# Altium schematic symbol library Passive.SchLib: 49 symbols
Pins are listed as number, name and electrical type; pins without a type are passive.

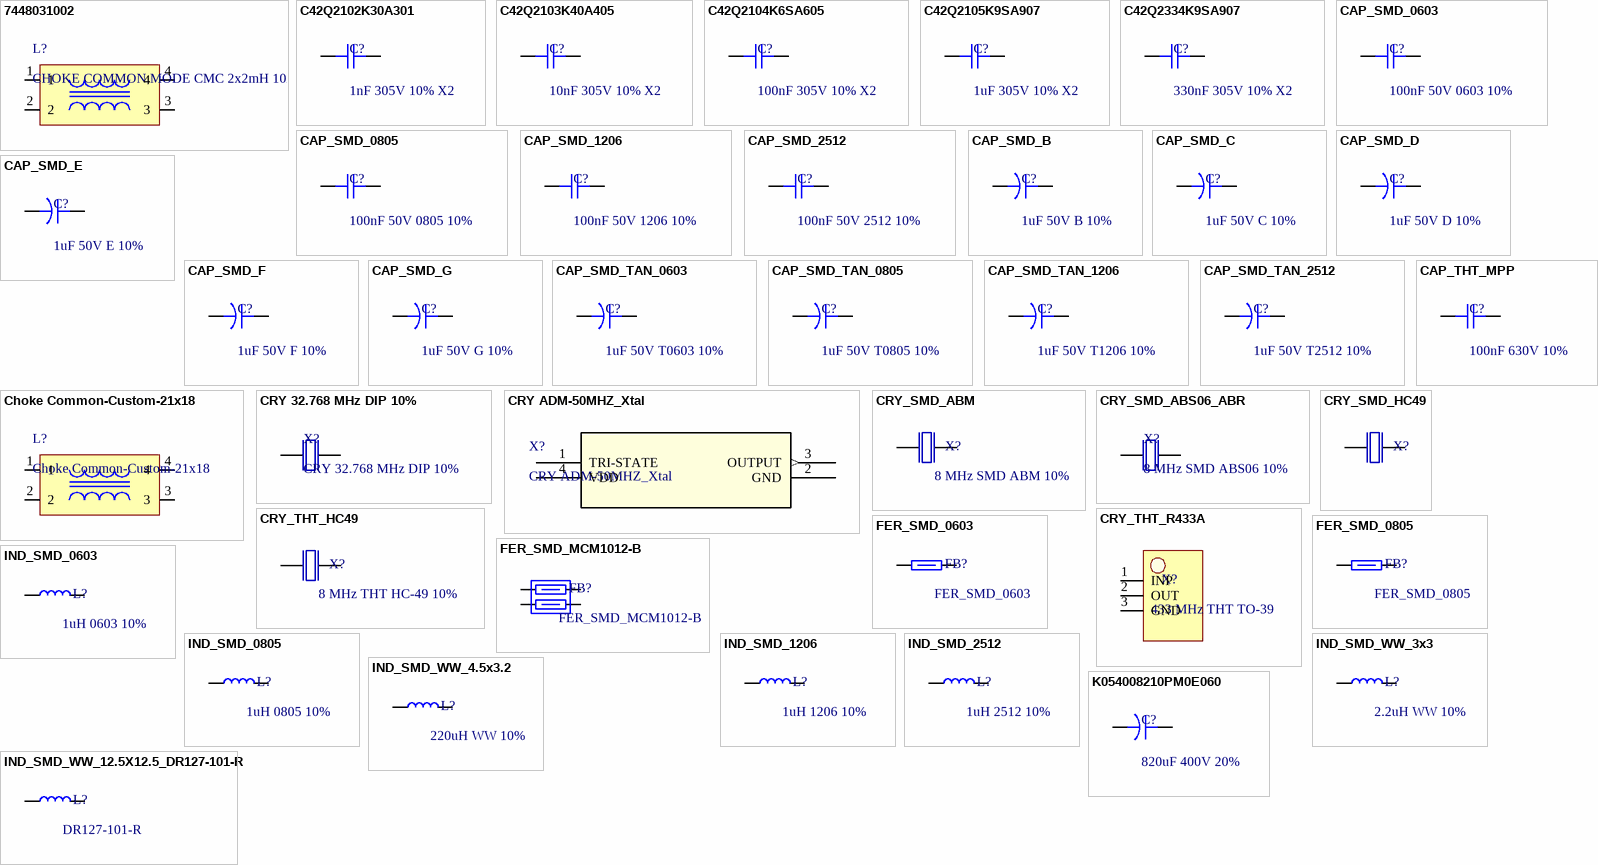
[diagram p0: symbols 7448031002 to K054008210PM0E060]

## 7448031002
designator L?, comment CHOKE COMMON MODE CMC 2x2mH 10A
Link: https://ozdisan.com/pasif-komponentler/induktorler/ortak-mod-bobinler/7448031002/696108
footprint 7448031002
pins: 1, 2, 3, 4

## C42Q2102K30A301
designator C?, comment 1nF 305V 10% X2
Link: https://ozdisan.com/passive-components/capacitors/film-capacitors/C42Q2102K30A301/514463
footprint C42Q2102K30A301
pins: 1, 2

## C42Q2103K40A405
designator C?, comment 10nF 305V 10% X2
Link: https://ozdisan.com/passive-components/capacitors/film-capacitors/C42Q2103K40A405/350791
footprint C42Q2103K40A405
pins: 1, 2

## C42Q2104K6SA605
designator C?, comment 100nF 305V 10% X2
Link: https://ozdisan.com/passive-components/capacitors/film-capacitors/C42Q2104K6SA605/350799
footprint C42Q2104K6SA605
footprint C42Q2104K6SA605-W
pins: 1, 2

## C42Q2105K9SA907
designator C?, comment 1uF 305V 10% X2
Link: https://ozdisan.com/passive-components/capacitors/film-capacitors/C42Q2105K9SA907/350809
footprint C42Q2105K9SA907
pins: 1, 2

## C42Q2334K9SA907
designator C?, comment 330nF 305V 10% X2
Link: https://ozdisan.com/passive-components/capacitors/film-capacitors/C42Q2334K9SA907/350803
footprint C42Q2334K9SA907
pins: 1, 2

## CAP_SMD_0603
designator C?, comment 100nF 50V 0603 10%
footprint CAPC-0603-M (Chip Capacitor, 2-Leads, Body 1.60x0.80mm, IPC Low Density)
footprint CAPC-0603-N (Chip Capacitor, 2-Leads, Body 1.60x0.80mm, IPC Medium Density)
footprint CAPC-0603-L (Chip Capacitor, 2-Leads, Body 1.60x0.80mm, IPC High Density)
pins: 1, 2

## CAP_SMD_0805
designator C?, comment 100nF 50V 0805 10%
footprint CAPC-0805-M (Chip Capacitor, 2-Leads, Body 2.00x1.30mm, IPC Low Density)
footprint CAPC-0805-N (Chip Capacitor, 2-Leads, Body 2.00x1.30mm, IPC Medium Density)
footprint CAPC-0805-L (Chip Capacitor, 2-Leads, Body 2.00x1.30mm, IPC High Density)
pins: 1, 2

## CAP_SMD_1206
designator C?, comment 100nF 50V 1206 10%
footprint CAPC-1206-M (Chip Capacitor, 2-Leads, Body 3.05x1.60mm, IPC Low Density)
footprint CAPC-1206-N (Chip Capacitor, 2-Leads, Body 3.05x1.60mm, IPC Medium Density)
footprint CAPC-1206-L (Chip Capacitor, 2-Leads, Body 3.05x1.60mm, IPC High Density)
pins: 1, 2

## CAP_SMD_2512
designator C?, comment 100nF 50V 2512 10%
footprint CAPC-2512-M (Chip Capacitor, 2-Leads, Body 6.35x3.15mm, IPC Low Density)
footprint CAPC-2512-N (Chip Capacitor, 2-Leads, Body 6.35x3.15mm, IPC Medium Density)
footprint CAPC-2512-L (Chip Capacitor, 2-Leads, Body 6.35x3.15mm, IPC High Density)
pins: 1, 2

## CAP_SMD_B
designator C?, comment 1uF 50V B 10%
footprint CAPP-B-M (Aluminum Electrolytic Capacitor, Body 4.30x4.30x5.50mm, IPC Low Density)
footprint CAPP-B-N (Aluminum Electrolytic Capacitor, Body 4.30x4.30x5.50mm, IPC Medium Density)
footprint CAPP-B-L (Aluminum Electrolytic Capacitor, Body 4.30x4.30x5.50mm, IPC High Density)
pins: 1, 2

## CAP_SMD_C
designator C?, comment 1uF 50V C 10%
footprint CAPP-C-M (Aluminum Electrolytic Capacitor, Body 5.30x5.30x5.50mm, IPC Low Density)
footprint CAPP-C-N (Aluminum Electrolytic Capacitor, Body 5.30x5.30x5.50mm, IPC Medium Density)
footprint CAPP-C-L (Aluminum Electrolytic Capacitor, Body 5.30x5.30x5.50mm, IPC High Density)
pins: 1, 2

## CAP_SMD_D
designator C?, comment 1uF 50V D 10%
footprint CAPP-D-M (Aluminum Electrolytic Capacitor, Body 6.60x6.60x5.50mm, IPC Low Density)
footprint CAPP-D-N (Aluminum Electrolytic Capacitor, Body 6.60x6.60x5.50mm, IPC Medium Density)
footprint CAPP-D-L (Aluminum Electrolytic Capacitor, Body 6.60x6.60x5.50mm, IPC High Density)
pins: 1, 2

## CAP_SMD_E
designator C?, comment 1uF 50V E 10%
footprint CAPP-E-M (Aluminum Electrolytic Capacitor, Body 8.30x8.30x9.50mm, IPC Low Density)
footprint CAPP-E-N (Aluminum Electrolytic Capacitor, Body 8.30x8.30x9.50mm, IPC Medium Density)
footprint CAPP-E-L (Aluminum Electrolytic Capacitor, Body 8.30x8.30x9.50mm, IPC High Density)
pins: 1, 2

## CAP_SMD_F
designator C?, comment 1uF 50V F 10%
footprint CAPP-F-M (Aluminum Electrolytic Capacitor, Body 8.30x8.30x10.00mm, IPC Low Density)
footprint CAPP-F-N (Aluminum Electrolytic Capacitor, Body 8.30x8.30x10.00mm, IPC Medium Density)
footprint CAPP-F-L (Aluminum Electrolytic Capacitor, Body 8.30x8.30x10.00mm, IPC High Density)
pins: 1, 2

## CAP_SMD_G
designator C?, comment 1uF 50V G 10%
footprint CAPP-G-M (Aluminum Electrolytic Capacitor, Body 10.30x10.30x10.50mm, IPC Low Density)
footprint CAPP-G-N (Aluminum Electrolytic Capacitor, Body 10.30x10.30x10.50mm, IPC Medium Density)
footprint CAPP-G-L (Aluminum Electrolytic Capacitor, Body 10.30x10.30x10.50mm, IPC High Density)
pins: 1, 2

## CAP_SMD_TAN_0603
designator C?, comment 1uF 50V T0603 10%
pins: 1, 2

## CAP_SMD_TAN_0805
designator C?, comment 1uF 50V T0805 10%
pins: 1, 2

## CAP_SMD_TAN_1206
designator C?, comment 1uF 50V T1206 10%
footprint CAPCT-1206-M (Chip Capacitor, 2-Leads, Body 3.05x1.60mm, IPC Low Density)
footprint CAPCT-1206-N (Chip Capacitor, 2-Leads, Body 3.05x1.60mm, IPC Medium Density)
footprint CAPCT-1206-L (Chip Capacitor, 2-Leads, Body 3.05x1.60mm, IPC High Density)
pins: 1, 2

## CAP_SMD_TAN_2512
designator C?, comment 1uF 50V T2512 10%
pins: 1, 2

## CAP_THT_MPP
designator C?, comment 100nF 630V 10%
footprint CAP-THT-MPP-10MM
pins: 1, 2

## Choke Common-Custom-21x18
designator L?
Link: https://ozdisan.com/pasif-komponentler/induktorler/ortak-mod-bobinler/7448031002/696108
footprint Choke Common-Custom-21x18
pins: 1, 2, 3, 4

## CRY 32.768 MHz DIP 10%
designator X?
footprint MTF32
pins: 1 A, 2 B

## CRY ADM-50MHZ_Xtal
designator X?
footprint ADM-50MHZ_Xtal
pins: 1 TRI-STATE, 2 GND, 3 OUTPUT (out), 4 VDD (power)

## CRY_SMD_ABM
designator X?, comment 8 MHz SMD ABM 10%
footprint ABM3-8.000MHZ-D2Y-T
pins: 1 A, 2 B

## CRY_SMD_ABS06_ABR
designator X?, comment 8 MHz SMD ABS06 10%
footprint XTAL_ABS06_ABR
pins: 1 A, 2 B

## CRY_SMD_HC49
designator X?
footprint HC49 US
pins: 1 A, 2 B

## CRY_THT_HC49
designator X?, comment 8 MHz THT HC-49 10%
footprint HC49U
pins: 1 A, 2 B

## CRY_THT_R433A
designator X?, comment 433 MHz THT TO-39
footprint TO-39
pins: 1 INP, 2 OUT, 3 GND

## FER_SMD_0603
designator FB?
LCB1608-152Y-N-FERRITE BEAD 0603 1K5/100MHZ SMD
footprint INDC-0603-M (Chip Inductor, 2-Leads, Body 1.60x0.80mm, IPC Low Density)
footprint INDC-0603-N (Chip Inductor, 2-Leads, Body 1.60x0.80mm, IPC Medium Density)
footprint INDC-0603-L (Chip Inductor, 2-Leads, Body 1.60x0.80mm, IPC High Density)
pins: 1 A, 2 B

## FER_SMD_0805
designator FB?
BLM21PG221SN1D-FERRITE BEAD 0805 220R 2A SMD MURATA
footprint INDC-0805-M (Chip Inductor, 2-Leads, Body 2.00x1.30mm, IPC Low Density)
footprint INDC-0805-N (Chip Inductor, 2-Leads, Body 2.00x1.30mm, IPC Medium Density)
footprint INDC-0805-L (Chip Inductor, 2-Leads, Body 2.00x1.30mm, IPC High Density)
pins: 1 A, 2 B

## FER_SMD_MCM1012-B
designator FB?
MCM1012-B
footprint 0504 (1210 Metric), 4 PC Pad
pins: 1 A, 2 B, 3 D, 4 C

## IND_SMD_0603
designator L?, comment 1uH 0603 10%
footprint INDC-0603-M (Chip Inductor, 2-Leads, Body 1.60x0.80mm, IPC Low Density)
footprint INDC-0603-N (Chip Inductor, 2-Leads, Body 1.60x0.80mm, IPC Medium Density)
footprint INDC-0603-L (Chip Inductor, 2-Leads, Body 1.60x0.80mm, IPC High Density)
pins: 1 A, 2 B

## IND_SMD_0805
designator L?, comment 1uH 0805 10%
footprint INDC-0805-M (Chip Inductor, 2-Leads, Body 2.00x1.30mm, IPC Low Density)
footprint INDC-0805-N (Chip Inductor, 2-Leads, Body 2.00x1.30mm, IPC Medium Density)
footprint INDC-0805-L (Chip Inductor, 2-Leads, Body 2.00x1.30mm, IPC High Density)
pins: 1 A, 2 B

## IND_SMD_1206
designator L?, comment 1uH 1206 10%
footprint INDC-1206-M (Chip Inductor, 2-Leads, Body 3.05x1.60mm, IPC Low Density)
footprint INDC-1206-N (Chip Inductor, 2-Leads, Body 3.05x1.60mm, IPC Medium Density)
footprint INDC-1206-L (Chip Inductor, 2-Leads, Body 3.05x1.60mm, IPC High Density)
pins: 1 A, 2 B

## IND_SMD_2512
designator L?, comment 1uH 2512 10%
footprint INDC-2512-M (Chip Inductor, 2-Leads, Body 6.35x3.15mm, IPC Low Density)
footprint INDC-2512-N (Chip Inductor, 2-Leads, Body 6.35x3.15mm, IPC Medium Density)
footprint INDC-2512-L (Chip Inductor, 2-Leads, Body 6.35x3.15mm, IPC High Density)
pins: 1 A, 2 B

## IND_SMD_WW_3x3
designator L?, comment 2.2uH WW 10%
Link: https://ozdisan.com/passive-components/inductors/fixed-inductors/FPI0302-2R2M/533324
footprint INDC-WW-3X3-M (Precision Wire Wound Inductor, 2-Leads, Body 3.30x3.00mm, IPC Low Density)
pins: 1 A, 2 B

## IND_SMD_WW_4.5x3.2
designator L?, comment 220uH WW 10%
footprint INDC-WW-4.5x3.2-M (Precision Wire Wound Inductor, 2-Leads, Body 5.80x5.20mm, IPC Low Density)
footprint INDC-WW-4.5x3.2-N (Precision Wire Wound Inductor, 2-Leads, Body 5.80x5.20mm, IPC Medium Density)
footprint INDC-WW-4.5x3.2-L (Precision Wire Wound Inductor, 2-Leads, Body 5.80x5.20mm, IPC High Density)
pins: 1 A, 2 B

## IND_SMD_WW_12.5X12.5_DR127-101-R
designator L?, comment DR127-101-R
footprint INDC-WW-12.5X12.5-M (Precision Wire Wound Inductor, 2-Leads, Body 12,65x12,65mm, IPC Low Density)
footprint INDC-WW-12.5X12.5-N (Precision Wire Wound Inductor, 2-Leads, Body 12,65x12,65mm, IPC Medium Density)
footprint INDC-WW-12.5X12.5-L (Precision Wire Wound Inductor, 2-Leads, Body 12,65x12,65mm, IPC High Density)
pins: 1 A, 2 B

## K054008210PM0E060
designator C?, comment 820uF 400V 20%
Link: https://ozdisan.com/pasif-komponentler/kapasitorler/aluminyum-kapasitorler/K054008210PM0E060/4759
footprint K054008210PM0E060
pins: 1, 2

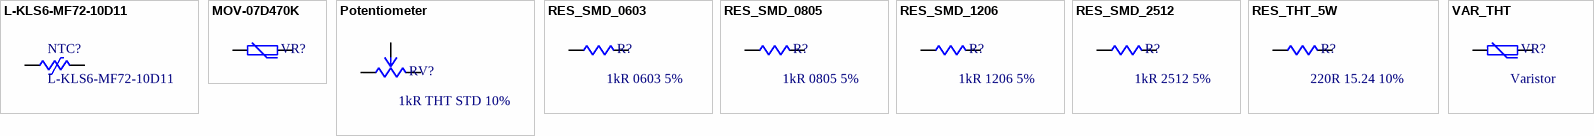
[diagram p1: symbols L-KLS6-MF72-10D11 to VAR_THT]

## L-KLS6-MF72-10D11
designator NTC?
Link: https://ozdisan.com/circuit-protections/thermistors/ntc-thermistors/L-KLS6-MF72-10D11/1201344
footprint NTC-D11
pins: 1 A, 2 B

## MOV-07D470K
designator VR?  (value not drawn)
Link: https://www.digikey.de/de/products/detail/bourns-inc/MOV-07D470K/2407528?srsltid=AfmBOoo6Oe2ShXoR3kDu0POx0zpXutJanNXfYCzVSTj6wkCLxqAex1aP
footprint MOV-07DxxxK
pins: 1 A, 2 B

## Potentiometer
designator RV?, comment 1kR THT STD 10%
pins: 1 A, 2 B, 3 C

## RES_SMD_0603
designator R?, comment 1kR 0603 5%
footprint RESC-0603-M (Chip Resistor, 2-Leads, Body 1.60x0.80mm, IPC Low Density)
footprint RESC-0603-N (Chip Resistor, 2-Leads, Body 1.60x0.80mm, IPC Medium Density)
footprint RESC-0603-L (Chip Resistor, 2-Leads, Body 1.60x0.80mm, IPC High Density)
pins: 1 A, 2 B

## RES_SMD_0805
designator R?, comment 1kR 0805 5%
footprint RESC-0805-M (Chip Resistor, 2-Leads, Body 2.00x1.30mm, IPC Low Density)
footprint RESC-0805-N (Chip Resistor, 2-Leads, Body 2.00x1.30mm, IPC Medium Density)
footprint RESC-0805-L (Chip Resistor, 2-Leads, Body 2.00x1.30mm, IPC High Density)
pins: 1 A, 2 B

## RES_SMD_1206
designator R?, comment 1kR 1206 5%
footprint RESC-1206-M (Chip Resistor, 2-Leads, Body 3.05x1.60mm, IPC Low Density)
footprint RESC-1206-N (Chip Resistor, 2-Leads, Body 3.05x1.60mm, IPC Medium Density)
footprint RESC-1206-L (Chip Resistor, 2-Leads, Body 3.05x1.60mm, IPC High Density)
pins: 1 A, 2 B

## RES_SMD_2512
designator R?, comment 1kR 2512 5%
footprint RESC-2512-M (Chip Resistor, 2-Leads, Body 6.35x3.15mm, IPC Low Density)
footprint RESC-2512-N (Chip Resistor, 2-Leads, Body 6.35x3.15mm, IPC Medium Density)
footprint RESC-2512-L (Chip Resistor, 2-Leads, Body 6.35x3.15mm, IPC High Density)
pins: 1 A, 2 B

## RES_THT_5W
designator R?, comment 220R 15.24 10%
footprint RES-THT-5W-15.24MM
footprint RES-THT-5W-17.5MM
footprint RES-THT-5W-24.5MM
pins: 1 A, 2 B

## VAR_THT
designator VR?, comment Varistor
footprint VAR_THT_14MM
footprint VAR_THT_Bourns_14MM
footprint VAR_THT_10MM
footprint VAR_THT_Bourns_STR_14MM
footprint VAR_THT_H15MM
pins: 1 A, 2 B